# Altium schematic symbol library Schlib_RC.SchLib: 75 symbols
Pins are listed as number, name and electrical type; pins without a type are passive.

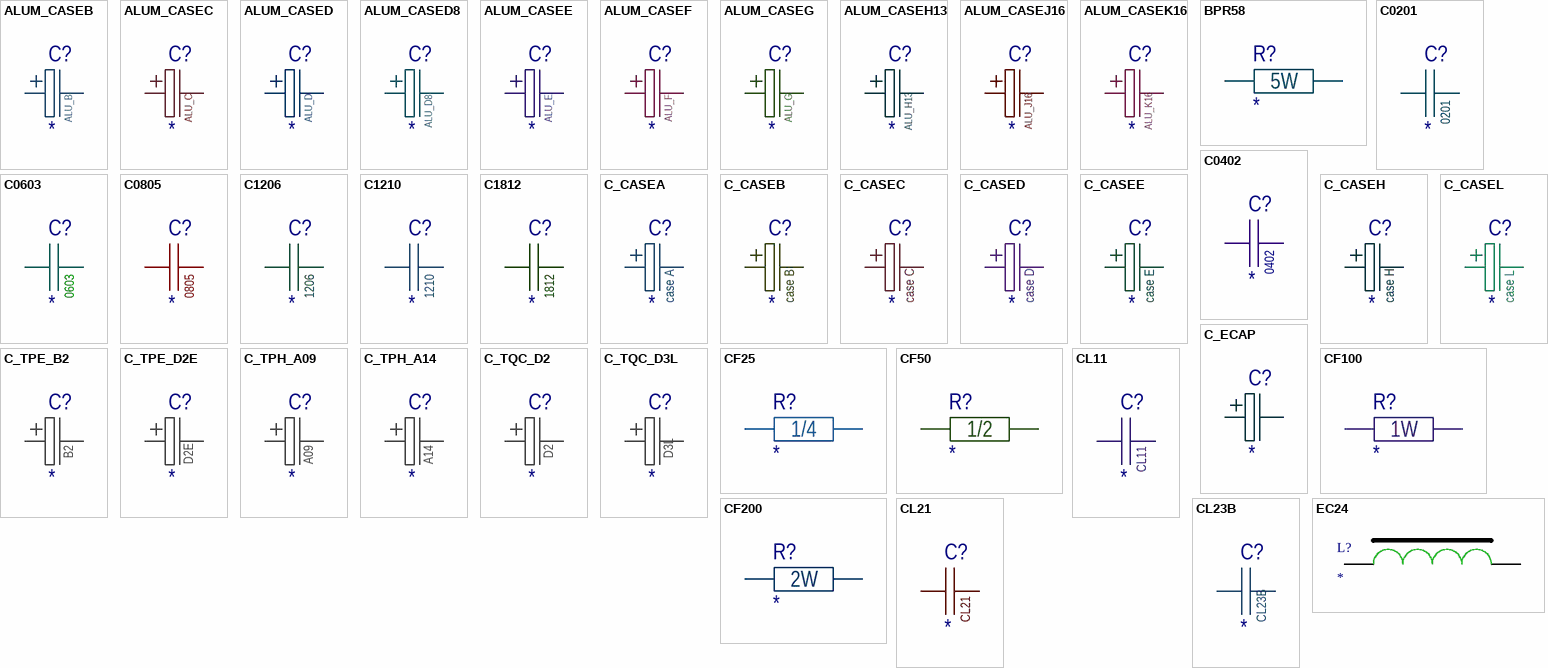
[diagram p0: symbols ALUM_CASEB to EC24]

## ALUM_CASEB
designator C?  Package: ALU_B
Aluminium capacitors case B; Tolerance: ± * %; Voltage: * В; Value: *; Value on schem: *; Part Number: *; Manufacturer: *
footprint ALUM0405_CASEB (Aluminium Capacitor 0405 (Size code B))
pins: 1, 2

## ALUM_CASEC
designator C?  Package: ALU_C
Aluminium capacitors case B; Tolerance: ± * %; Voltage: * В; Value: *; Value on schem: *; Part Number: *; Manufacturer: *
footprint ALUM0505_CASEC (Aluminium Capacitor 0505  (Size code C))
pins: 1, 2

## ALUM_CASED
designator C?  Package: ALU_D
Aluminium capacitors case B; Tolerance: ± * %; Voltage: * В; Value: *; Value on schem: *; Part Number: *; Manufacturer: *
footprint ALUM0605_CASED (Aluminium Capacitor 0605  (Size code D))
pins: 1, 2

## ALUM_CASED8
designator C?  Package: ALU_D8
Aluminium capacitors case B; Tolerance: ± * %; Voltage: * В; Value: *; Value on schem: *; Part Number: *; Manufacturer: *
footprint ALUM0607_CASED8 (Aluminium Capacitor 0607  (Size code D8))
pins: 1, 2

## ALUM_CASEE
designator C?  Package: ALU_E
Aluminium capacitors case B; Tolerance: ± * %; Voltage: * В; Value: *; Value on schem: *; Part Number: *; Manufacturer: *
footprint ALUM0806_CASEE (Aluminium Capacitor 0806  (Size code E))
pins: 1, 2

## ALUM_CASEF
designator C?  Package: ALU_F
Aluminium capacitors case B; Tolerance: ± * %; Voltage: * В; Value: *; Value on schem: *; Part Number: *; Manufacturer: *
footprint ALUM0810_CASEF (Aluminium Capacitor 0810  (Size code F))
pins: 1, 2

## ALUM_CASEG
designator C?  Package: ALU_G
Aluminium capacitors case B; Tolerance: ± * %; Voltage: * В; Value: *; Value on schem: *; Part Number: *; Manufacturer: *
footprint ALUM1010_CASEG (Aluminium Capacitor 1010  (Size code G))
pins: 1, 2

## ALUM_CASEH13
designator C?  Package: ALU_H13
Aluminium capacitors case B; Tolerance: ± * %; Voltage: * В; Value: *; Value on schem: *; Part Number: *; Manufacturer: *
footprint ALUM1213_CASEH13 (Aluminium Capacitor 1213  (Size code H13))
pins: 1, 2

## ALUM_CASEJ16
designator C?  Package: ALU_J16
Aluminium capacitors case B; Tolerance: ± * %; Voltage: * В; Value: *; Value on schem: *; Part Number: *; Manufacturer: *
footprint ALUM1616_CASEJ16 (Aluminium Capacitor 1616  (Size code J16))
pins: 1, 2

## ALUM_CASEK16
designator C?  Package: ALU_K16
Aluminium capacitors case B; Tolerance: ± * %; Voltage: * В; Value: *; Value on schem: *; Part Number: *; Manufacturer: *
footprint ALUM1816_CASEK16 (Aluminium Capacitor 1816  (Size code K16))
pins: 1, 2

## BPR58
designator R?  Package: 5W
Rectangular type metal plate resistors; Manufacturer: KOA Speer; Value: * Ом; Tolerance: ±  %; Temperature Coefficient: ±*/°C; Value on schem: *; Part Number: *; Voltage: *
footprint BPR58 (Metal plate resistor 5W)
footprint BPR58_HORIZONTAL (Metal plate resistor 5W)
pins: 1, 2

## C0201
designator C?  Package: 0201
Capacitors 0402 package case; Tolerance: ± * %; Voltage: * В; Value: *; Dielectric: *; Value on schem: *; Manufacturer: *; Part Number: *
footprint CAP0201
pins: 1, 2

## C0402
designator C?  Package: 0402
Capacitors 0402 package case; Tolerance: ± * %; Voltage: * В; Value: *; Dielectric: *; Value on schem: *; Part Number: *; Manufacturer: *
footprint CAP0402
footprint CAP0402A
pins: 1, 2

## C0603
designator C?  Package: 0603
Capacitors 0603 package case; Tolerance: ± * %; Voltage: * В; Value: *; Dielectric: *; Value on schem: *; Part Number: *; Manufacturer: *
footprint CAP0603 (Capacitor 0603)
pins: 1, 2

## C0805
designator C?  Package: 0805
Capacitors 0805 package case; Tolerance: ± * %; Voltage: * В; Value: *; Dielectric: *; Value on schem: *; Part Number: *; Manufacturer: *
footprint CAP0805-0.75 (Capacitor 0805)
footprint CAP0805-0.95 (Capacitor 0805)
footprint CAP0805-1.35 (Capacitor 0805)
pins: 1, 2

## C1206
designator C?  Package: 1206
Capacitors 1206 package case; Tolerance: ± * %; Voltage: * В; Value: *; Dielectric: *; Value on schem: *; Part Number: *; Manufacturer: *
footprint CAP1206-1.0 (Capacitor 1206)
footprint CAP1206-1.4 (Capacitor 1206)
footprint CAP1206-1.8 (Capacitor 1206)
pins: 1, 2

## C1210
designator C?  Package: 1210
Capacitors 1210 package case; Tolerance: ± * %; Voltage: * В; Value: *; Dielectric: *; Value on schem: *; Part Number: *; Manufacturer: *
footprint CAP1210-1.45 (Capacitor 1210)
footprint CAP1210-1.8 (Capacitor 1210)
footprint CAP1210-2.2 (Capacitor 1210)
footprint CAP1210-2.7 (Capacitor 1210)
pins: 1, 2

## C1812
designator C?  Package: 1812
Capacitors 1812 package case; Tolerance: ± * %; Voltage: * В; Value: *; Dielectric: *; Value on schem: *; Part Number: *; Manufacturer: *
footprint CAP1812-1.1 (Chip Capacitor, 2-Leads, Body 4.50x3.20mm, IPC Medium Density)
footprint CAP1812-1.35 (Chip Capacitor, 2-Leads, Body 4.50x3.20mm, IPC Medium Density)
footprint CAP1812-1.5 (Chip Capacitor, 2-Leads, Body 4.50x3.20mm, IPC Medium Density)
footprint CAP1812-1.75 (Chip Capacitor, 2-Leads, Body 4.50x3.20mm, IPC Medium Density)
footprint CAP1812-2.0 (Chip Capacitor, 2-Leads, Body 4.50x3.20mm, IPC Medium Density)
footprint CAP1812-2.2 (Chip Capacitor, 2-Leads, Body 4.50x3.20mm, IPC Medium Density)
footprint CAP1812-2.55 (Chip Capacitor, 2-Leads, Body 4.50x3.20mm, IPC Medium Density)
footprint CAP1812-3.5 (Chip Capacitor, 2-Leads, Body 4.50x3.20mm, IPC Medium Density)
pins: 1, 2

## C_CASEA
designator C?  Package: case A
Tantalum capacitors case A; Tolerance: ± * %; Voltage: * В; Value: *; Value on schem: *; Part Number: *; Manufacturer: *
footprint CAP_CASE_A (Capacitor Case A)
pins: 1, 2

## C_CASEB
designator C?  Package: case B
Tantalum capacitors case B; Tolerance: ± * %; Voltage: * В; Value: *; Part Number: *; Value on schem: *; Manufacturer: *
footprint CAP_CASE_B (Capacitor Case B)
pins: 1, 2

## C_CASEC
designator C?  Package: case C
Tantalum capacitors case C; Tolerance: ± * %; Voltage: * В; Value: *; Part Number: *; Value on schem: *; Manufacturer: *
footprint CAP_CASE_C (Capacitor Case C)
pins: 1, 2

## C_CASED
designator C?  Package: case D
Tantalum capacitors case D; Tolerance: ± * %; Voltage: * В; Value: *; Part Number: *; Value on schem: *; Manufacturer: *
footprint CAP_CASE_D (Capacitor Case D)
pins: 1, 2

## C_CASEE
designator C?  Package: case E
Tantalum capacitors case E; Tolerance: ± * %; Voltage: * В; Value: *; Part Number: *; Value on schem: *; Manufacturer: *
footprint CAP_CASE_E (Capacitor Case E)
pins: 1, 2

## C_CASEH
designator C?  Package: case H
Tantalum capacitors case U (low profile); Tolerance: ± * %; Voltage: * В; Value: *; Part Number: *; Value on schem: *; Manufacturer: *
pins: 1, 2

## C_CASEL
designator C?  Package: case L
Tantalum capacitors case L; Tolerance: ± * %; Voltage: * В; Value: *; Part Number: *; Value on schem: *; Manufacturer: *
footprint CAP_CASE_L (Capacitor Case L)
pins: 1, 2

## C_ECAP
designator C?
Aluminium capacitor; Tolerance: ± * %; Voltage: * В; Value: *; Value on schem: *; Part Number: *; Manufacturer: *; Package: *
footprint ECAP4X6X1.5_BLK (Aluminium Capacitor)
footprint ECAP4X6X1.5_BRW (Aluminium Capacitor)
footprint ECAP5X8X2.0_BLK (Aluminium Capacitor)
footprint ECAP5X8X2.0_BRW (Aluminium Capacitor)
footprint ECAP5X9X2.0_BLK (Aluminium Capacitor)
footprint ECAP5X9X2.0_BRW (Aluminium Capacitor)
footprint ECAP5X10X2.0_BLK (Aluminium Capacitor)
footprint ECAP5X10X2.0_BRW (Aluminium Capacitor)
footprint ECAP5X11X2.0_BLK (Aluminium Capacitor)
footprint ECAP5X11X2.0_BRW (Aluminium Capacitor)
footprint ECAP5X12X2.0_BLK (Aluminium Capacitor)
footprint ECAP5X12X2.0_BRW (Aluminium Capacitor)
footprint ECAP6.3X5X2.5_BLK (Aluminium Capacitor)
footprint ECAP6.3X5X2.5_BRW (Aluminium Capacitor)
footprint ECAP6.3X5.5X2.5_BLK (Aluminium Capacitor)
footprint ECAP6.3X5.5X2.5_BRW (Aluminium Capacitor)
footprint ECAP6.3X6X2.5_BLK (Aluminium Capacitor)
footprint ECAP6.3X6X2.5_BRW (Aluminium Capacitor)
footprint ECAP6.3X6.5X2.5_BLK (Aluminium Capacitor)
footprint ECAP6.3X6.5X2.5_BRW (Aluminium Capacitor)
footprint ECAP6.3X7X2.5_BLK (Aluminium Capacitor)
footprint ECAP6.3X7X2.5_BRW (Aluminium Capacitor)
footprint ECAP6.3X8X2.5_BLK (Aluminium Capacitor)
footprint ECAP6.3X8X2.5_BRW (Aluminium Capacitor)
footprint ECAP6.3X9X2.5_BLK (Aluminium Capacitor)
footprint ECAP6.3X9X2.5_BRW (Aluminium Capacitor)
footprint ECAP6.3X9.5X2.5_BLK (Aluminium Capacitor)
footprint ECAP6.3X9.5X2.5_BRW (Aluminium Capacitor)
footprint ECAP6.3X10X2.5_BLK (Aluminium Capacitor)
footprint ECAP6.3X10X2.5_BRW (Aluminium Capacitor)
footprint ECAP6.3X10.5X2.5_BLK (Aluminium Capacitor)
footprint ECAP6.3X10.5X2.5_BRW (Aluminium Capacitor)
footprint ECAP6.3X11X2.5_BLK (Aluminium Capacitor)
footprint ECAP6.3X11X2.5_BRW (Aluminium Capacitor)
footprint ECAP6.3X11.5X2.5_BLK (Aluminium Capacitor)
footprint ECAP6.3X11.5X2.5_BRW (Aluminium Capacitor)
footprint ECAP6.3X12X2.5_BLK (Aluminium Capacitor)
footprint ECAP6.3X12X2.5_BRW (Aluminium Capacitor)
footprint ECAP6.3X12.5X2.5_BLK (Aluminium Capacitor)
footprint ECAP6.3X12.5X2.5_BRW (Aluminium Capacitor)
footprint ECAP8X7X3.5_BLK (Aluminium Capacitor)
footprint ECAP8X7X3.5_BRW (Aluminium Capacitor)
footprint ECAP8X7.5X3.5_BLK (Aluminium Capacitor)
footprint ECAP8X7.5X3.5_BRW (Aluminium Capacitor)
footprint ECAP8X8X3.5_BLK (Aluminium Capacitor)
footprint ECAP8X8X3.5_BRW (Aluminium Capacitor)
footprint ECAP8X9X3.5_BLK (Aluminium Capacitor)
footprint ECAP8X9X3.5_BRW (Aluminium Capacitor)
footprint ECAP8X9.5X3.5_BLK (Aluminium Capacitor)
footprint ECAP8X9.5X3.5_BRW (Aluminium Capacitor)
footprint ECAP8X10X3.5_BLK (Aluminium Capacitor)
footprint ECAP8X10X3.5_BRW (Aluminium Capacitor)
footprint ECAP8X10.5X3.5_BLK (Aluminium Capacitor)
footprint ECAP8X10.5X3.5_BRW (Aluminium Capacitor)
footprint ECAP8X11X3.5_BLK (Aluminium Capacitor)
footprint ECAP8X11X3.5_BRW (Aluminium Capacitor)
footprint ECAP8X11.5X3.5_BLK (Aluminium Capacitor)
footprint ECAP8X11.5X3.5_BRW (Aluminium Capacitor)
footprint ECAP8X12X3.5_BLK (Aluminium Capacitor)
footprint ECAP8X12X3.5_BRW (Aluminium Capacitor)
footprint ECAP8X12.5X3.5_BLK (Aluminium Capacitor)
footprint ECAP8X12.5X3.5_BRW (Aluminium Capacitor)
footprint ECAP8X13X3.5_BLK (Aluminium Capacitor)
footprint ECAP8X13X3.5_BRW (Aluminium Capacitor)
footprint ECAP8X13.5X3.5_BLK (Aluminium Capacitor)
footprint ECAP8X13.5X3.5_BRW (Aluminium Capacitor)
footprint ECAP8X17.5X3.5_BLK (Aluminium Capacitor)
footprint ECAP8X17.5X3.5_BRW (Aluminium Capacitor)
footprint ECAP8X20X3.5_BLK (Aluminium Capacitor)
footprint ECAP8X20X3.5_BRW (Aluminium Capacitor)
footprint ECAP8X21.5X3.5_BLK (Aluminium Capacitor)
footprint ECAP8X21.5X3.5_BRW (Aluminium Capacitor)
footprint ECAP10X8X5_BLK (Aluminium Capacitor)
footprint ECAP10X8X5_BRW (Aluminium Capacitor)
footprint ECAP10X10X5_BLK (Aluminium Capacitor)
footprint ECAP10X10X5_BRW (Aluminium Capacitor)
footprint ECAP10X10.5X5_BLK (Aluminium Capacitor)
footprint ECAP10X10.5X5_BRW (Aluminium Capacitor)
footprint ECAP10X11X5_BLK (Aluminium Capacitor)
footprint ECAP10X11X5_BRW (Aluminium Capacitor)
footprint ECAP10X11.5X5_BLK (Aluminium Capacitor)
footprint ECAP10X11.5X5_BRW (Aluminium Capacitor)
footprint ECAP10X12X5_BLK (Aluminium Capacitor)
footprint ECAP10X12X5_BRW (Aluminium Capacitor)
footprint ECAP10X12.5X5_BLK (Aluminium Capacitor)
footprint ECAP10X12.5X5_BRW (Aluminium Capacitor)
footprint ECAP10X13X5_BLK (Aluminium Capacitor)
footprint ECAP10X13X5_BRW (Aluminium Capacitor)
footprint ECAP10X13.5X5_BLK (Aluminium Capacitor)
footprint ECAP10X13.5X5_BRW (Aluminium Capacitor)
footprint ECAP10X14X5_BLK (Aluminium Capacitor)
footprint ECAP10X14X5_BRW (Aluminium Capacitor)
footprint ECAP10X14.5X5_BLK (Aluminium Capacitor)
footprint ECAP10X14.5X5_BRW (Aluminium Capacitor)
footprint ECAP10X17X5_BLK (Aluminium Capacitor)
footprint ECAP10X17X5_BRW (Aluminium Capacitor)
footprint ECAP10X17.5X5_BLK (Aluminium Capacitor)
footprint ECAP10X17.5X5_BRW (Aluminium Capacitor)
footprint ECAP10X19X5_BLK (Aluminium Capacitor)
footprint ECAP10X19X5_BRW (Aluminium Capacitor)
footprint ECAP10X21X5_BLK (Aluminium Capacitor)
footprint ECAP10X21X5_BRW (Aluminium Capacitor)
footprint ECAP10X21.5X5_BLK (Aluminium Capacitor)
footprint ECAP10X21.5X5_BRW (Aluminium Capacitor)
footprint ECAP10X25X5_BLK (Aluminium Capacitor)
footprint ECAP10X25X5_BRW (Aluminium Capacitor)
footprint ECAP13X21X5_BLK (Aluminium Capacitor)
footprint ECAP13X21X5_BRW (Aluminium Capacitor)
footprint ECAP18X30X75_BLK (Aluminium Capacitor)
footprint ECAP18X30X75_BRW (Aluminium Capacitor)
footprint ECAP18X32X75_BLK (Aluminium Capacitor)
footprint ECAP18X32X75_BRW (Aluminium Capacitor)
footprint ECAP16X36X75_BLK (Aluminium Capacitor)
pins: 1, 2

## C_TPE_B2
designator C?  Package: B2
Conductive Polymer Tantalum Solid Capacitors TPE-Series. Case code B2; Tolerance: ± * %; Voltage: * В; Value: *; Part Number: *; Value on schem: *; Manufacturer: *
footprint CAP_TPE_B2 (Capacitor TPE-Series B2 Package)
pins: 1, 2

## C_TPE_D2E
designator C?  Package: D2E
Conductive Polymer Tantalum Solid Capacitors TPE-Series. Case code D2E; Tolerance: ± * %; Voltage: * В; Value: *; Part Number: *; Value on schem: *; Manufacturer: *
footprint CAP_TPE_D2E (Capacitor TPE-Series D2E Package)
pins: 1, 2

## C_TPH_A09
designator C?  Package: A09
Conductive Polymer Tantalum Solid Capacitors TPH-Series. Case code A09; Manufacturer: Panasonic; Tolerance: ± * %; Voltage: * В; Value: *; Part Number: *; Value on schem: *
footprint CAP_TPH_A09 (Capacitor TPH-Series A09 Package)
pins: 1, 2

## C_TPH_A14
designator C?  Package: A14
Conductive Polymer Tantalum Solid Capacitors TPH-Series. Case code A14; Manufacturer: Panasonic; Tolerance: ± * %; Voltage: * В; Value: *; Part Number: *; Value on schem: *
footprint CAP_TPH_A14 (Capacitor TPH-Series A14 Package)
pins: 1, 2

## C_TQC_D2
designator C?  Package: D2
Conductive Polymer Tantalum Solid Capacitors TQC-Series. Case code D2; Tolerance: ± * %; Voltage: * В; Value: *; Part Number: *; Value on schem: *; Manufacturer: *
footprint CAP_TQC_D2 (Capacitor TQC-Series D2 Package)
pins: 1, 2

## C_TQC_D3L
designator C?  Package: D3L
Conductive Polymer Tantalum Solid Capacitors TQC-Series. Case code D3L; Tolerance: ± * %; Voltage: * В; Value: *; Part Number: *; Value on schem: *; Manufacturer: *
footprint CAP_TQC_D3L (Capacitor TQC-Series D3L Package)
pins: 1, 2

## CF25
designator R?  Package: 1/4
Resistor 1/4W; Value: * Ом; Tolerance: ±  %; Temperature Coefficient: ±*/°C; Value on schem: *; Part Number: *; Manufacturer: *; Voltage: *
footprint CFR-25 (Carbon Film Resistors 1/2W)
footprint CFR-25(VERTICAL) (Carbon Film Resistors 1/2W)
pins: 1, 2

## CF50
designator R?  Package: 1/2
Resistor 1/2W; Value: * Ом; Tolerance: ±  %; Temperature Coefficient: ±*/°C; Value on schem: *; Part Number: *; Manufacturer: *; Voltage: *
footprint CFR-50 (Carbon Film Resistors 1W)
footprint CFR-50(VERTICAL) (Carbon Film Resistors 1W)
pins: 1, 2

## CF100
designator R?  Package: 1W
Resistor 1W; Value: * Ом; Tolerance: ±  %; Temperature Coefficient: ±*/°C; Value on schem: *; Part Number: *; Manufacturer: *; Voltage: *
footprint CFR-100 (Carbon Film Resistors 2W)
footprint CFR-100(VERTICAL) (Carbon Film Resistors 2W)
pins: 1, 2

## CF200
designator R?  Package: 2W
Resistor 2W; Value: * Ом; Tolerance: ±  %; Temperature Coefficient: ±*/°C; Value on schem: *; Part Number: *; Manufacturer: *; Voltage: *
footprint CFR-200 (Carbon Film Resistors 2W)
footprint CFR-200(VERTICAL) (Carbon Film Resistors 2W)
pins: 1, 2

## CL11
designator C?  Package: CL11
CL11 Type Polyester Film Metal Foil Capacitor-inductive; Tolerance: ± * %; Voltage: * В; Value: *; Dielectric: *; Value on schem: *; Part Number: *; Manufacturer: *
footprint CL11_6x3.5_P3.5 (Cap 6x11.5x3.5mm, pitch = 3.5mm)
footprint CL11_6x4_P3.5 (Cap 6x11.5x4mm, pitch = 3.5mm)
footprint CL11_6x4_P4.0 (Cap 6x11.5x4mm, pitch = 4.0mm)
footprint CL11_6.5x4_P4.0 (Cap 6.5x11.5x4mm, pitch = 4.0mm)
footprint CL11_7x4_P4.0 (Cap 7x11.5x4mm, pitch = 4.0mm)
footprint CL11_7x4.5_P4.0 (Cap 7x11.5x4.5mm, pitch = 4.0mm)
footprint CL11_7x4.5_P4.5 (Cap 7x11.5x4.5mm, pitch = 4.5mm)
footprint CL11_8x4.5_P5.0 (Cap 8x12x4.5mm, pitch = 5.0mm)
footprint CL11_8.5x5_P5.5 (Cap 8.5x12x5mm, pitch = 5.5mm)
footprint CL11_9x5.5_P5.5 (Cap 9x12.5x5.5mm, pitch = 5.5mm)
footprint CL11_10x6_P7 (Cap 10x13.5x6mm, pitch = 7mm)
footprint CL11_10.5x6.5_P7 (Cap 10.5x13.5x6.5mm, pitch = 7mm)
footprint CL11_11.5x7_P7.5 (Cap 11.5x13.5x7mm, pitch = 7.5mm)
footprint CL11_13.5x8_P9 (Cap 13.5x16x8mm, pitch = 9mm)
footprint CL11_14.5x8.5_P9.5 (Cap 14.5x17.5x8.5mm, pitch = 9.5mm)
footprint CL11_16.5x9.5_P10.5 (Cap 16.5.5x21.5x9.5mm, pitch = 10.5mm)
pins: 1, 2

## CL21
designator C?  Package: CL21
CL21 Type Metallized Polyester Film Capacitor; Tolerance: ± * %; Voltage: * В; Value: *; Dielectric: Polyester; Value on schem: *; Part Number: *; Manufacturer: *
footprint CL21_29x24.5x14.0_P27.5 (Cap 29x24.5x14.0mm, pitch = 27.5mm)
footprint CL21_23x18.5x12.0_P20 (Cap 23x18.5x12.0mm, pitch = 20mm)
footprint CL21_29x13.5x6.5_P27.5 (Cap 29x13.5x6.5mm, pitch = 27.5mm)
pins: 1, 2

## CL23B
designator C?  Package: CL23B
Box-type metallized polyester film capacitor; Tolerance: ± * %; Voltage: * В; Value: *; Dielectric: *; Value on schem: *; Part Number: *; Manufacturer: *
footprint CL23B_7.2x2.5 (Box-type 7.2x2.5x6.5mm)
footprint CL23B_7.2x3.5 (Box-type 7.2x3.5x7.5mm)
footprint CL23B_7.2x4.5 (Box-type 7.2x4.5x9.5mm)
footprint CL23B_7.2x5.0 (Box-type 7.2x5.0x10.0mm)
footprint CL23B_7.2x6.0 (Box-type 7.2x6.0x11.0mm)
pins: 1, 2

## EC24
designator L?
Axial leaded coated inductors; Manufacturer: 3L Electronic; RDC: * Ohm; SRF Min: * MHz; Irms  Max: * A; Inductance @ 100 kHz: * µH; Part Number: *; Package: EC24; Q: *; Isat  Typ: * A
footprint EC24_CYAN (Inductor)
footprint EC24_CYAN_VERTICAL (Inductor)
footprint EC24_GREEN (Inductor)
footprint EC24_GREEN_VERT (Inductor)
pins: 1, 2

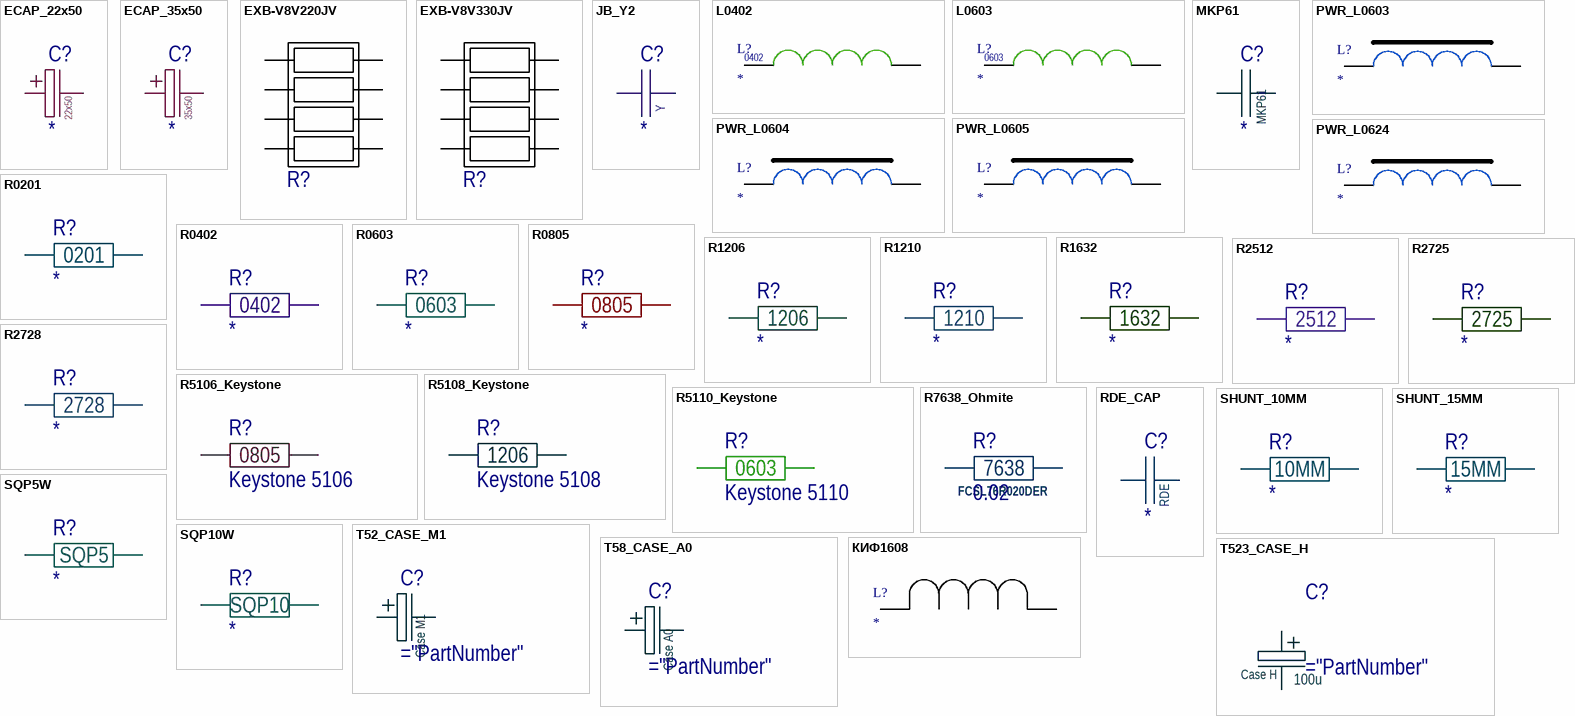
[diagram p1: symbols ECAP_22x50 to КИФ1608]

## ECAP_22x50
designator C?  Package: 22x50
Aluminium capacitors 35x50mm; Tolerance: ± * %; Voltage: * В; Value: *; Value on schem: *; Part Number: *; Manufacturer: *
footprint ECAP22X50X10 (Aluminium Capacitor)
pins: 1, 2

## ECAP_35x50
designator C?  Package: 35x50
Aluminium capacitors 35x50mm; Tolerance: ± * %; Voltage: * В; Value: *; Value on schem: *; Part Number: *; Manufacturer: *
footprint ECAP35X50X10 (Aluminium Capacitor)
pins: 1, 2

## EXB-V8V220JV
designator R?, comment EXB-V8V330JV  (value not drawn)
Chip resistor array 22 Ohm; Manufacturer: Panasonic Electronic Components; Part Number: EXB-V8V330JV; Value: *; Value on schem: *; Package: 3.2x1.6mm
footprint EXBV8V
pins: 1, 2, 3, 4, 5, 6, 7, 8

## EXB-V8V330JV
designator R?  (value not drawn)
Chip resistor array; Manufacturer: Panasonic Electronic Components; Part Number: EXB-V8V330JV; Value: *; Value on schem: *; Package: 3.2x1.6mm
footprint EXBV8V
pins: 1, 2, 3, 4, 5, 6, 7, 8

## JB_Y2
designator C?  Package: Y
High Voltage Ceramic Capacitor; Tolerance: ± * %; Voltage: * В; Value: *; Dielectric: *; Value on schem: *; Part Number: *; Manufacturer: *
footprint JYC_Y2_CAP_6.5 (Cap D=6.5mm, pitch = 5mm)
footprint JYC_Y2_CAP_7.5 (Cap D=7.5mm, pitch = 5mm)
pins: 1, 2

## L0402
designator L?  Package: 0402
RF Inductors; Tolerance: ±  %; Part Number: *; Value: *; Value on schem: *; Manufacturer: *
footprint IND0402 (Inductor 0402)
pins: 1, 2

## L0603
designator L?  Package: 0603
RF Inductors; Tolerance: ±  %; Part Number: *; Value: *; Value on schem: *; Manufacturer: *
footprint KIF1608B (Inductor 0603 Brown)
footprint KIF1608C (Inductor 0603 Cyan)
footprint KIF1608G (Inductor 0603 Green)
pins: 1, 2

## MKP61
designator C?  Package: MKP61
Metallized Polypropylene Film Capacitor for high voltage application; Tolerance: ± * %; Voltage: * В; Value: *; Dielectric: *; Value on schem: *; Part Number: *; Manufacturer: *
footprint MKP61_13x11x5_P10 (Cap 13x11x5mm, pitch = 10mm)
footprint MKP61_13x12x6_P10 (Cap 13x12x6mm, pitch = 10mm)
footprint MKP61_13x9x4_P10 (Cap 13x9x4mm, pitch = 10mm)
footprint MKP61_18x11x5_P15 (Cap 18x11x5mm, pitch = 15mm)
footprint MKP61_18x12x6_P15 (Cap 18x12x6mm, pitch = 15mm)
footprint MKP61_18x13.5x7.5_P15 (Cap 18x13.5x7.5mm, pitch = 15mm)
footprint MKP61_18x14.5x8.5_P15 (Cap 18x14.5x8.5mm, pitch = 15mm)
footprint MKP61_18x16.0x10.0_P15 (Cap 18x16x10mm, pitch = 15mm)
footprint MKP61_26.5x15.0x6.0_P22.5 (Cap 26.5x15x6mm, pitch = 22.5mm)
footprint MKP61_26.5x16.0x7.0_P22.5 (Cap 26.5x16x7mm, pitch = 22.5mm)
footprint MKP61_26.5x17.0x8.5_P22.5 (Cap 26.5x17x8.5mm, pitch = 22.5mm)
footprint MKP61_26.5x18.5x10.0_P22.5 (Cap 26.5x18.5x10mm, pitch = 22.5mm)
pins: 1, 2

## PWR_L0603
designator L?
Shielded SMD Power Inductors 7.4 x 6.6 x 3 mm; RDC: * Ohm; SRF Min: * MHz; Irms  Max: * A; Inductance @ 100 kHz: * µH; Part Number: *; Package: 7.4 x 6.6 mm; Q: *; Isat  Typ: * A; Manufacturer: *
footprint PWR_L0603 (Power Inductor 6.6x7.4x3mm)
pins: 1, 2

## PWR_L0604
designator L?
Shielded SMD Power Inductors 7.4 x 6.6 x 4 mm; RDC: * Ohm; SRF Min: * MHz; Irms  Max: * A; Inductance @ 100 kHz: * µH; Part Number: *; Package: 7.4 x 6.6 mm; Q: *; Isat  Typ: * A; Manufacturer: *
footprint PWR_L0604 (Power Inductor 6.6x7.4x4mm)
pins: 1, 2

## PWR_L0605
designator L?
Shielded SMD Power Inductors 7.4 x 6.6 x 5 mm; RDC: * Ohm; SRF Min: * MHz; Irms  Max: * A; Inductance @ 100 kHz: * µH; Part Number: *; Package: 7.4 x 6.6 mm; Q: *; Isat  Typ: * A; Manufacturer: *
footprint PWR_L0605 (Power Inductor 6.6x7.4x5mm)
pins: 1, 2

## PWR_L0624
designator L?
Shielded SMD Power Inductors 7.4 x 6.6 x 2.4 mm; RDC: * Ohm; SRF Min: * MHz; Irms  Max: * A; Inductance @ 100 kHz: * µH; Part Number: *; Package: 7.4 x 6.6 mm; Q: *; Isat  Typ: * A; Manufacturer: *
footprint PWR_L0624 (Power Inductor 6.6x7.4x2.4mm)
pins: 1, 2

## R0201
designator R?  Package: 0201
Resistor 0402 package case; Value: * Ом; Tolerance: ±  %; Temperature Coefficient: ±*/°C; Value on schem: *; Part Number: *; Manufacturer: *; Voltage: *
footprint RES0201B
footprint RES0201C
footprint RES0201G
pins: 1, 2

## R0402
designator R?  Package: 0402
Resistor 0402 package case; Value: * Ом; Tolerance: ±  %; Temperature Coefficient: ±*/°C; Value on schem: *; Part Number: *; Manufacturer: *; Voltage: *
footprint RES0402B
footprint RES0402C
footprint RES0402G
pins: 1, 2

## R0603
designator R?  Package: 0603
Resistor 0603 package case; Value: * Ом; Tolerance: ±  %; Temperature Coefficient: ±*/°C; Value on schem: *; Part Number: *; Manufacturer: *; Voltage: *
footprint RES0603B (Resistor 0603)
footprint RES0603C (Resistor 0603)
footprint RES0603G (Resistor 0603)
footprint RCP0603W
pins: 1, 2

## R0805
designator R?  Package: 0805
Resistor 0805 package case; Value: * Ом; Tolerance: ±  %; Temperature Coefficient: ±*/°C; Value on schem: *; Part Number: *; Manufacturer: *; Voltage: *
footprint RES0805B (Resistor 0603)
footprint RES0805C (Resistor 0603)
footprint RES0805G (Resistor 0603)
pins: 1, 2

## R1206
designator R?  Package: 1206
Resistor 1206 package case; Value: * Ом; Tolerance: ±  %; Temperature Coefficient: ±*/°C; Value on schem: *; Manufacturer: *; Part Number: *; Voltage: *
footprint RES1206C (Resistor 1206)
footprint RES1206B (Resistor 1206)
footprint RES1206G (Resistor 1206)
pins: 1, 2

## R1210
designator R?  Package: 1210
Resistor 1210 package case; Value: * Ом; Tolerance: ±  %; Temperature Coefficient: ±*/°C; Value on schem: *; Manufacturer: *; Part Number: *; Voltage: *
footprint RES1210B (Capacitor 1210)
footprint RES1210C (Capacitor 1210)
pins: 1, 2

## R1632
designator R?  Package: 1632
Resistor 1632 package case; Tolerance: ± * %; Temperature Coefficient: ±*/°C; Value: *; Value on schem: *; Power Dissipation: *; Manufacturer: *; Part Number: *; Voltage: *
footprint MCS1632 (smd shunt)
pins: 1, 2

## R2512
designator R?  Package: 2512
Resistor 2512 package case; Value: * Ом; Tolerance: ±  %; Temperature Coefficient: ±*/°C; Value on schem: *; Manufacturer: *; Part Number: *; Voltage: *
footprint RES2512-CSM2512 (Four Terminal High Precision Current Sense)
footprint RES2512-LVK-Series (Four Terminal High Precision Current Sense)
footprint RES2512B (Resistor 2512)
pins: 1, 2

## R2725
designator R?  Package: 2725
Resistor 2725 package case; Tolerance: ± 1 %; Power Dissipation: 4W; Temperature Coefficient: ±50ppm/°C; Voltage: ±*/°C; Value: *; Value on schem: *; Manufacturer: *; Part Number: *
footprint RES2725
pins: 1, 2

## R2728
designator R?  Package: 2728
Resistor 2728 package case; Tolerance: ±  %; Power Dissipation: Вт; Temperature Coefficient: ±*/°C; Value: *; Value on schem: *; Part Number: *; Manufacturer: *; Voltage: *
footprint RES2728B
pins: 1, 2

## R5106_Keystone
designator R?, comment Keystone 5106  Package: 0805
0805 Jumper; PartNumber: Keystone 5106
footprint Keystone 5106 (Jumper 0805)
pins: 1, 2

## R5108_Keystone
designator R?, comment Keystone 5108  Package: 1206
1206 Jumper; PartNumber: Keystone 5108
footprint Keystone 5108 (Jumper 1206)
pins: 1, 2

## R5110_Keystone
designator R?, comment Keystone 5110  Package: 0603
0603 Jumper; PartNumber: Keystone 5110
footprint Keystone 5110 (Jumper 0603)
pins: 1, 2

## R7638_Ohmite
designator R?, comment 0.02  PartNumber: FCSL76R020DER  Package: 7638
Resistor 7638 package case; Tolerance: ± 0.5%; Power Dissipation: 3 W; Temperature Coefficient: ± 50ppm/°C; Value: 0.02; Value on schem: 0.02
footprint FCSL76
pins: 1, 2

## RDE_CAP
designator C?  Package: RDE
MLCC radial lead type with epoxy coat (RDE Series); Manufacturer: Murata; Tolerance: ± * %; Dielectric: X7R; Voltage: * В; Value: *; Value on schem: *; Part Number: *
footprint RDE_0P1 (RDE capacitor, size 0P1)
footprint RDE_1P1 (RDE capacitor, size 1P1)
footprint RDE_2P1 (RDE capacitor, size 2P1)
footprint RDE_3P1 (RDE capacitor, size 3P1)
pins: 1, 2

## SHUNT_10MM
designator R?  Package: 10MM
Constantan shunt resistor, pitch = 10mm; Value: * Ом; Tolerance: ±  %; Temperature Coefficient: ±*/°C; Value on schem: *; Part Number: *; Manufacturer: *; Voltage: *
footprint CURRENT_SENSE_10x11mm (Constantan Current Sense, 10mm length, 11mm Heigth)
footprint CURRENT_SENSE_10x14mm (Constantan Current Sense, 10mm length, 14mm Heigth)
pins: 1, 2

## SHUNT_15MM
designator R?  Package: 15MM
Constantan shunt resistor, pitch = 15mm; Value: * Ом; Tolerance: ±  %; Temperature Coefficient: ±*/°C; Value on schem: *; Part Number: *; Manufacturer: *; Voltage: *
footprint CURRENT_SENSE_15x18mm (Constantan Current Sense, 15mm length, 18mm Heigth)
pins: 1, 2

## SQP5W
designator R?  Package: SQP5
Cement Fixed Resistors SQP-5W; Value: * Ом; Power Dissipation: 5W; Value on schem: *
footprint RES_SQP5W
pins: 1, 2

## SQP10W
designator R?  Package: SQP10
Cement Fixed Resistors SQP-5W; Value: * Ом; Power Dissipation: 10W; Value on schem: *
footprint RES_SQP10W
pins: 1, 2

## T52_CASE_M1
designator C?  Package: Case M1
Vishay Sprague Tantalum-Polymer Capacitors T52 Series M1 Case; Part Number: T52M1337M016C0040; Tolerance: ± 20 %; Capacitance: 330µF; Voltage: 16V; ESR (Equivalent Series Resistance): 40mOhm @ 100kHz; Dimension: 2924 (7360 Metric) 7.30mm x 6.00mm
footprint CAP_T52_CASE_M1 (Vishay Sprague Tantalum-Polymer Capacitors T52 Series M1 Case)
pins: 1, 2

## T58_CASE_A0
designator C?  Package: Case A0
Vishay Sprague Tantalum-Polymer Capacitors T58 Series A0 Case; Part Number: T58A0107M6R3C0100; Tolerance: ± 20 %; Capacitance: 100µF; Voltage: 6.3V; ESR (Equivalent Series Resistance): 100mOhm @ 100kHz; Dimension: 1206 (3216 Metric) 3.20mm x 1.60mm
footprint CAP_T58_CASE_A0 (Vishay Sprague Tantalum-Polymer Capacitors T58 Series A0 Case)
pins: 1, 2

## T523_CASE_H
designator C?  Capacitance: 100u  Package: Case H
KEMET Tantalum-Polymer Capacitors T523 Series H Case; Part Number: T523H107M035APE070; Tolerance: ± 20 %; Voltage: 35V; ESR (Equivalent Series Resistance): 70mOhm @ 100kHz; Dimension: 2924 (7360 Metric) 7.30mm x 6.00mm; Manufacturer: KEMET
footprint CAP_T523_CASE_H (KEMET Tantalum-Polymer Capacitors T523 Series H Case)
pins: 1, 2

## КИФ1608
designator L?
КИФ1608; Tolerance: ±  %; Package: 0603; Part Number: *; Value: *; Value on schem: *; Manufacturer: *
footprint IND0402 (Inductor 0402)
pins: 1, 2